# EAGLE library part 1571983-4 (library 1571983-4)
SWITCH SLIDE DIP SPST 25MA 24V Buy Part <https://snapeda.com/parts/1571983-4/TE%20Connectivity/view-part/?ref=eda>
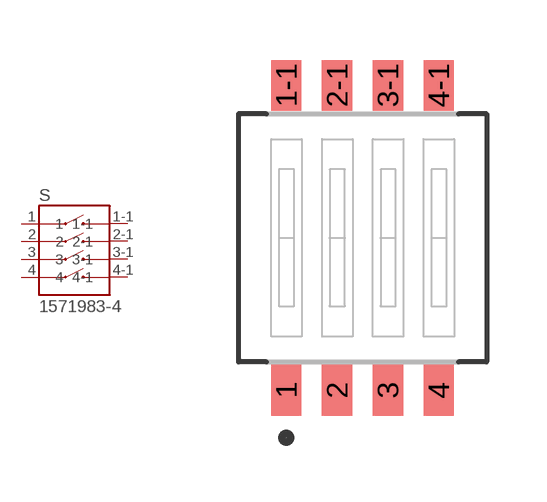
[diagram p0: symbol with the pads of SW_1571983-4; footprint SW_1571983-4]

Designator prefix S

## 1571983-4 (Arrow_Electronics-Purchase-URL: https://snapeda.com/shop?store=Arrow+Electronics&id=2889756; Availability: Good; Comment: 1571983-4; Description: Dip Switch SPST 4 Position Surface Mount Slide (Standard) Actuator 25mA 24VDC; DigiKey-Purchase-URL: https://snapeda.com/shop?store=DigiKey&id=2889756; MF: TE Connectivity; MP: 1571983-4; Package: None; Price: None)  [SW_1571983-4]
1  1  pas
1-1  1-1  pas
2  2  pas
2-1  2-1  pas
3  3  pas
3-1  3-1  pas
4  4  pas
4-1  4-1  pas

## Footprint SW_1571983-4 (pad centres in mm)
smd 0.76 x 1.27: 1 -1.905,-3.81; 1-1 -1.905,3.81; 2 -0.635,-3.81; 2-1 -0.635,3.81; 3 0.635,-3.81; 3-1 0.635,3.81; 4 1.905,-3.81; 4-1 1.905,3.81